# Altium schematic symbol library RES 165k 1_4W.Schlib: 1 symbol
Pins are listed as number, name and electrical type; pins without a type are passive.

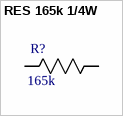
[diagram p0: symbol RES 165k 1/4W]

## RES 165k 1/4W
designator R?, comment 165k
RES SMD 165K OHM 1% 1/4W 0805
pins: 1 R1, 2 R2